# Altium footprint library myPcbLib1.PcbLib: 151 footprints (part 3 of 10)
Each footprint in its own frame and in the unit in brackets; x right, y up, seen from the top. Pads: shape width x height; smd on the part's side, far side on the other; paste and mask are expansions set on the pad; w line width, h text height; cw(c..) or ccw(c..) is an arc to the next point about the centre after c.
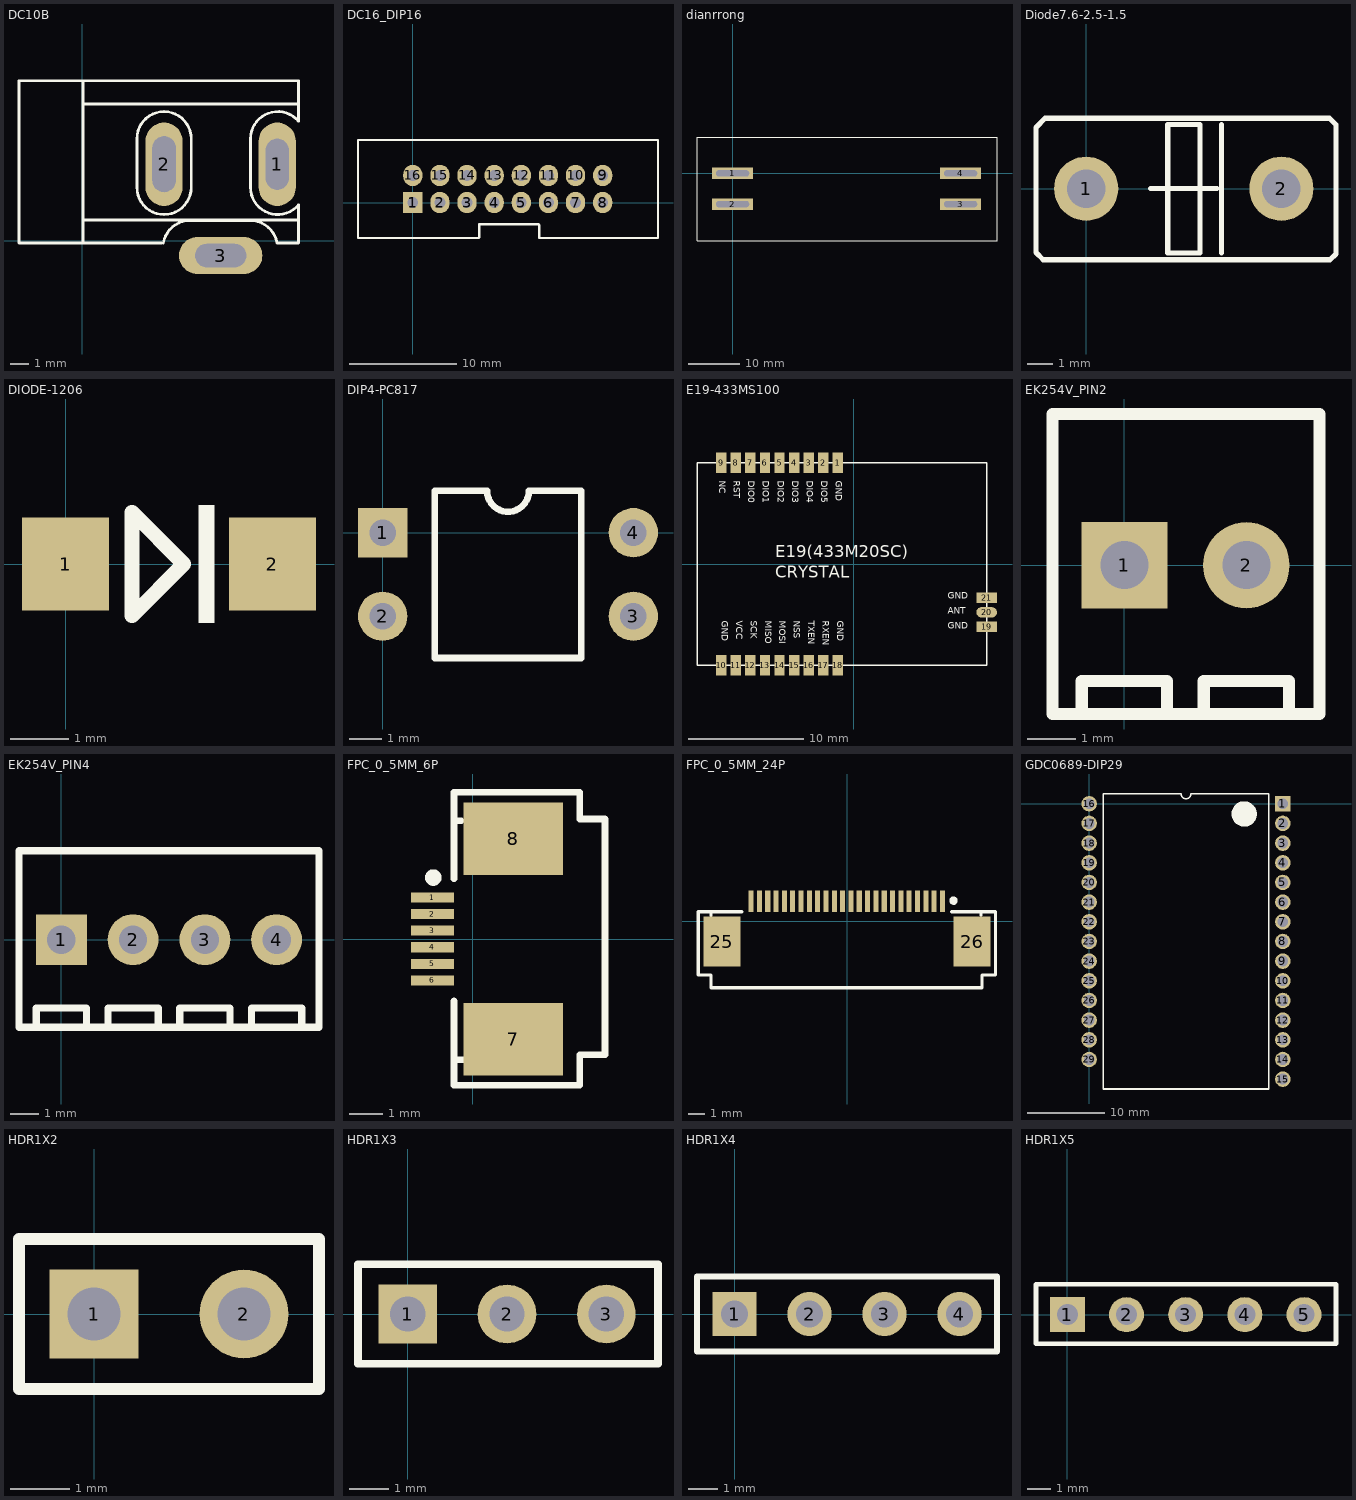
[diagram p2: the footprints below, top view; thin cyan lines are the x and y axes]

## DC10B [mil]
pads (3):
  oval 80x180 hole 50 slot 110 at 90 deg: 1(420.09,165)
  oval 80x180 hole 50 slot 120 at 90 deg: 2(176,165)
  oval 180x80 hole 50 slot 110 at 0 deg: 3(298.05,-31.85)
Top Overlay:
  lines w6: 1,45 466,45 ; 1,295 461.13,295 465.25,295 ; 6,345 -14,345 -136.8,345 -136.8,-5 1,-5 ; 170,-5 1,-5 ; 174.37,-4.84 cw(c232,-15) 232,43.52 362,43.52 cw(c362,-15) 419.63,-4.84 ; 421,-5 466,-5 466,75 ; 465.83,77.38 cw(c421,115) 362.48,115 362.48,220 cw(c421,220) 465.83,257.62 466,345 1,345 1,-5 ; 234.52,220 ccw(c176,220) 117.48,220 117.48,115 ccw(c176,115) 234.52,115 234.52,220 ; 234.52,220 234.52,220

## DC16_DIP16 [mm]
pads (16):
  rect 1.8x2 / inner rect 1.2x2 / far side rect 1.8x2 hole 1: 1(0,0)
  oval 1.8x2 / inner oval 1.2x2 / far side oval 1.8x2 hole 1: 2(2.54,0) 3(5.08,0) 4(7.62,0) 5(10.16,0) 6(12.7,0) 7(15.24,0) 8(17.78,0) 9(17.78,2.54) 10(15.24,2.54) 11(12.7,2.54) 12(10.16,2.54) 13(7.62,2.54) 14(5.08,2.54) 15(2.54,2.54) 16(0,2.54)
Top Overlay:
  lines w0.2: -5.131,-3.302 -5.131,5.842 22.962,5.842 22.962,-3.302 11.836,-3.302 11.836,-2.108 ccw(c11.76,-2.108) 11.76,-2.032 6.223,-2.032 6.223,-3.251 cw(c6.198,-3.251) 6.198,-3.277 cw(c6.172,-3.277) 6.172,-3.302 -5.131,-3.302

## dianrrong [mm]
pads (4):
  rect 8x2.2 hole 1.2 slot 6.4 at 0 deg: 1(0,0) 2(0,-5.994) 3(44.4,-5.994) 4(44.4,0)
Top Overlay:
  lines w0.2: -6.934,-13.106 51.486,-13.106 51.486,7.01 -6.934,7.01 -6.934,-13.106

## Diode7.6-2.5-1.5 [mm]
pads (2):
  round 2.5 hole 1.5: 1(0,0) 2(7.6,0)
Top Overlay:
  lines w0.2: 2.5,0 4.425,0 ; 3.175,0 5.1,0 ; 5.275,-2.5 5.275,2.5 ; 4.425,0 4.425,-2.5 3.175,-2.5 3.175,2.5 4.425,2.5 4.425,0
  lines w0.203: -1.956,-2.489 -1.956,2.388 -1.6,2.743 -1.27,2.743 9.474,2.743 9.728,2.489 9.728,-2.54 9.5,-2.769 -1.676,-2.769 -1.956,-2.489

## DIODE-1206 [mm]
pads (2):
  rect 1.5x1.6 smd: 1(0,0) 2(3.556,0)
Top Overlay:
  rectangle: 2.286,-1.016 2.559,1.016
  lines w0.254: 1.143,-0.889 1.143,0.889 2.032,0 1.143,-0.889

## DIP4-PC817 [mm]
pads (4):
  rect 1.5x1.5 hole 0.8: 1(0,0)
  round 1.5 hole 0.8: 2(0,-2.54) 3(7.62,-2.54) 4(7.62,0)
Top Overlay:
  lines w0.2: 1.585,-3.81 1.585,1.27 3.175,1.27 ccw(c3.81,1.27) 4.445,1.27 6.035,1.27 6.035,-3.81 1.585,-3.81

## E19-433MS100 [mm]
pads (21):
  rect 0.9x1.8 smd: 1(-1.39,8.8) 2(-2.66,8.8) 3(-3.93,8.8) 4(-5.2,8.8) 5(-6.47,8.8) 6(-7.74,8.8) 7(-9.01,8.8) 8(-10.28,8.8) 9(-11.55,8.8) 10(-11.55,-8.8) 11(-10.28,-8.8) 12(-9.01,-8.8) 13(-7.74,-8.8) 14(-6.47,-8.8) 15(-5.2,-8.8) 16(-3.93,-8.8) 17(-2.66,-8.8) 18(-1.39,-8.8)
  rect 1.8x0.9 smd: 19(11.55,-5.47) 21(11.55,-2.93)
  oval 1.8x0.9 smd: 20(11.55,-4.2)
Top Overlay:
  lines w0.127: -13.65,-8.8 11.55,-8.8 11.55,8.8 -13.65,8.8 -13.65,-8.8
  text "CRYSTAL" at -6.858,-1.524 h1.8
  text "E19(433M20SC)" at -6.858,0.254 h1.8
  text "GND" at -11.707,-4.924 h1
  text "VCC" at -10.455,-4.924 h1
  text "SCK" at -9.202,-4.924 h1
  text "MISO" at -7.95,-4.924 h1
  text "MOSI" at -6.697,-4.924 h1
  text "NSS" at -5.445,-4.924 h1
  text "TXEN" at -4.192,-4.924 h1
  text "RXEN" at -2.94,-4.924 h1
  text "GND" at -1.687,-4.924 h1
  text "NC" at -11.938,7.239 h1
  text "GND" at 8.158,-3.22 h1
  text "RST" at -10.668,7.239 h1
  text "DIO0" at -9.398,7.239 h1
  text "DIO1" at -8.128,7.239 h1
  text "DIO2" at -6.858,7.239 h1
  text "DIO3" at -5.588,7.239 h1
  text "DIO4" at -4.318,7.239 h1
  text "DIO5" at -3.048,7.239 h1
  text "GND" at -1.778,7.239 h1
  text "ANT" at 8.158,-4.53 h1
  text "GND" at 8.158,-5.84 h1

## EK254V_PIN2 [mm]
pads (2):
  rect 1.8x1.8 hole 1: 1(0,0)
  round 1.8 hole 1: 2(2.54,0)
Top Overlay:
  lines w0.254: -0.889,-3.048 -0.889,-2.413 0.889,-2.413 0.889,-3.048 ; 1.651,-3.048 1.651,-2.413 3.429,-2.413 3.429,-3.048 ; -1.5,-3.1 -1.5,3.15 4.064,3.15 4.064,-3.1 -1.5,-3.1

## EK254V_PIN4 [mm]
pads (4):
  rect 1.8x1.8 hole 1: 1(0,0)
  round 1.8 hole 1: 2(2.54,0) 3(5.08,0) 4(7.62,0)
Top Overlay:
  lines w0.254: -0.889,-3.048 -0.889,-2.413 0.889,-2.413 0.889,-3.048 ; 1.651,-3.048 1.651,-2.413 3.429,-2.413 3.429,-3.048 ; 4.191,-3.048 4.191,-2.413 5.969,-2.413 5.969,-3.048 ; 6.731,-3.048 6.731,-2.413 8.509,-2.413 8.509,-3.048 ; -1.5,-3.1 9.12,-3.1 9.12,3.15 -1.5,3.15 -1.5,-3.1

## FPC_0_5MM_6P [mil]
pads (8):
  rect 51x12 smd: 1(-48.03,49.27) 2(-48.03,29.59) 3(-48.03,9.9) 4(-48.03,-9.78) 5(-48.03,-29.47) 6(-48.03,-49.15)
  rect 118.11x86.61 smd: 7(48.03,-119.15) 8(48.03,119.15)
Top Overlay:
  circle w9.84: c-47,73 r4.92
  lines w7.87: -22.44,-73.63 -22.44,-173.63 126.97,-173.63 126.97,-137.63 156.97,-137.63 156.97,142.52 126.97,142.52 126.97,174.52 -22.44,174.52 -22.44,71.52 ; -22.41,140.52 -14,140.52 ; -21.44,-143.48 -12.03,-143.48

## FPC_0_5MM_24P [mil]
pads (26):
  rect 12x51 smd: 1(225.9,48.03) 2(206.22,48.03) 3(186.53,48.03) 4(166.85,48.03) 5(147.16,48.03) 6(127.48,48.03) 7(107.79,48.03) 8(88.11,48.03) 9(68.42,48.03) 10(48.74,48.03) 11(29.05,48.03) 12(9.37,48.03) 13(-10.32,48.03) 14(-30,48.03) 15(-49.69,48.03) 16(-69.37,48.03) 17(-89.06,48.03) 18(-108.74,48.03) 19(-128.43,48.03) 20(-148.11,48.03) 21(-167.8,48.03) 22(-187.48,48.03) 23(-207.16,48.03) 24(-226.85,48.03)
  rect 86.61x118.11 smd: 25(-295.79,-48.03) 26(295.79,-48.03)
Top Overlay:
  circle w9.84: c252,49 r4.92
  lines w7.87: -321.85,13.03 -321.85,22.44 ; -248.5,22.44 -321.85,22.44 ; 248.15,22.44 351.15,22.44 351.15,-126.97 319.15,-126.97 319.15,-156.97 -321.85,-156.97 -321.85,-126.97 -326.85,-126.97 -351.85,-126.97 -351.85,21.85 -352.44,22.44 -321.85,22.44 ; 317.15,14 317.15,22.41

## GDC0689-DIP29 [mm]
pads (29):
  rect 2x2 hole 1.4: 1(25,0)
  round 2 hole 1.4: 2(25,-2.54) 3(25,-5.08) 4(25,-7.62) 5(25,-10.16) 6(25,-12.7) 7(25,-15.24) 8(25,-17.78) 9(25,-20.32) 10(25,-22.86) 11(25,-25.4) 12(25,-27.94) 13(25,-30.48) 14(25,-33.02) 15(25,-35.56) 16(0,0) 17(0,-2.54) 18(0,-5.08) 19(0,-7.62) 20(0,-10.16) 21(0,-12.7) 22(0,-15.24) 23(0,-17.78) 24(0,-20.32) 25(0,-22.86) 26(0,-25.4) 27(0,-27.94) 28(0,-30.48) 29(0,-33.02)
Top Overlay:
  lines w0.2: 1.835,-36.83 1.835,1.27 11.865,1.27 ccw(c12.5,1.27) 13.135,1.27 23.165,1.27 23.165,-36.83 1.835,-36.83
  lines w1.6: 20.848,-1.372 cw(c20.013,-1.325) 20.849,-1.297

## HDR1X2 [mm]
pads (2):
  rect 1.5x1.5 hole 0.9: 1(0,0)
  round 1.5 hole 0.9: 2(2.54,0)
Top Overlay:
  lines w0.2: -1.27,-1.27 -1.27,1.27 3.81,1.27 3.81,-1.27 -1.27,-1.27

## HDR1X3 [mm]
pads (3):
  rect 1.5x1.5 hole 0.9: 1(0,0)
  round 1.5 hole 0.9: 2(2.54,0) 3(5.08,0)
Top Overlay:
  lines w0.2: -1.27,-1.27 -1.27,1.27 6.401,1.27 6.401,-1.27 -1.27,-1.27

## HDR1X4 [mm]
pads (4):
  rect 1.5x1.5 hole 0.9: 1(0,0)
  round 1.5 hole 0.9: 2(2.54,0) 3(5.08,0) 4(7.62,0)
Top Overlay:
  lines w0.2: -1.27,-1.27 -1.27,1.27 8.89,1.27 8.89,-1.27 -1.27,-1.27

## HDR1X5 [mm]
pads (5):
  rect 1.5x1.5 hole 0.9: 1(0,0)
  round 1.5 hole 0.9: 2(2.54,0) 3(5.08,0) 4(7.62,0) 5(10.16,0)
Top Overlay:
  lines w0.2: -1.346,-1.245 11.532,-1.245 11.532,1.295 -1.346,1.295 -1.346,-1.245